# EAGLE library part DS1013-10SSIB1 (library IDC_CON_DS1013-10SSIB1)
Socket; IDC; male; PIN: 10; straight; THT; gold-plated; 2.54mm Check availability <https://pricing.snapeda.com/parts/DS1013-10SSIB1/Connfly/view-part?ref=eda>
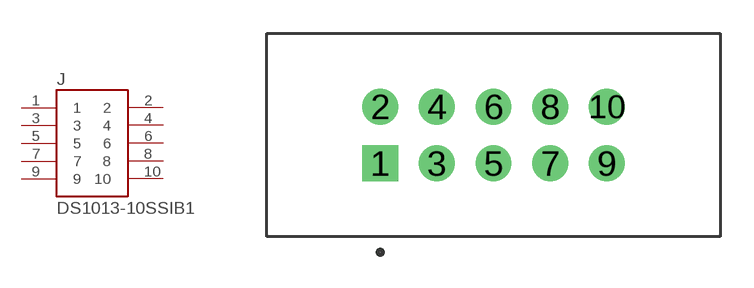
[diagram p0: symbol with the pads of CONNFLY_DS1013-10SSIB1; footprint CONNFLY_DS1013-10SSIB1]

Designator prefix J

## DS1013-10SSIB1 (Availability: Not in stock; Description: Socket; IDC; male; PIN: 10; straight; THT; gold plated; 2.54mm; MF: Connfly; MP: DS1013-10SSIB1; Package: None; Price: None)  [CONNFLY_DS1013-10SSIB1]
1  1  pas
2  2  pas
3  3  pas
4  4  pas
5  5  pas
6  6  pas
7  7  pas
8  8  pas
9  9  pas
10  10  pas

## Footprint CONNFLY_DS1013-10SSIB1 (pad centres in mm)
drill 1.07 square: 1 -5.08,-1.27
drill 1.07: 2 -5.08,1.27; 3 -2.54,-1.27; 4 -2.54,1.27; 5 0,-1.27; 6 0,1.27; 7 2.54,-1.27; 8 2.54,1.27; 9 5.08,-1.27; 10 5.08,1.27